# Altium schematic symbol library Quatro_SchLib.SchLib: 43 symbols
Pins are listed as number, name and electrical type; pins without a type are passive.

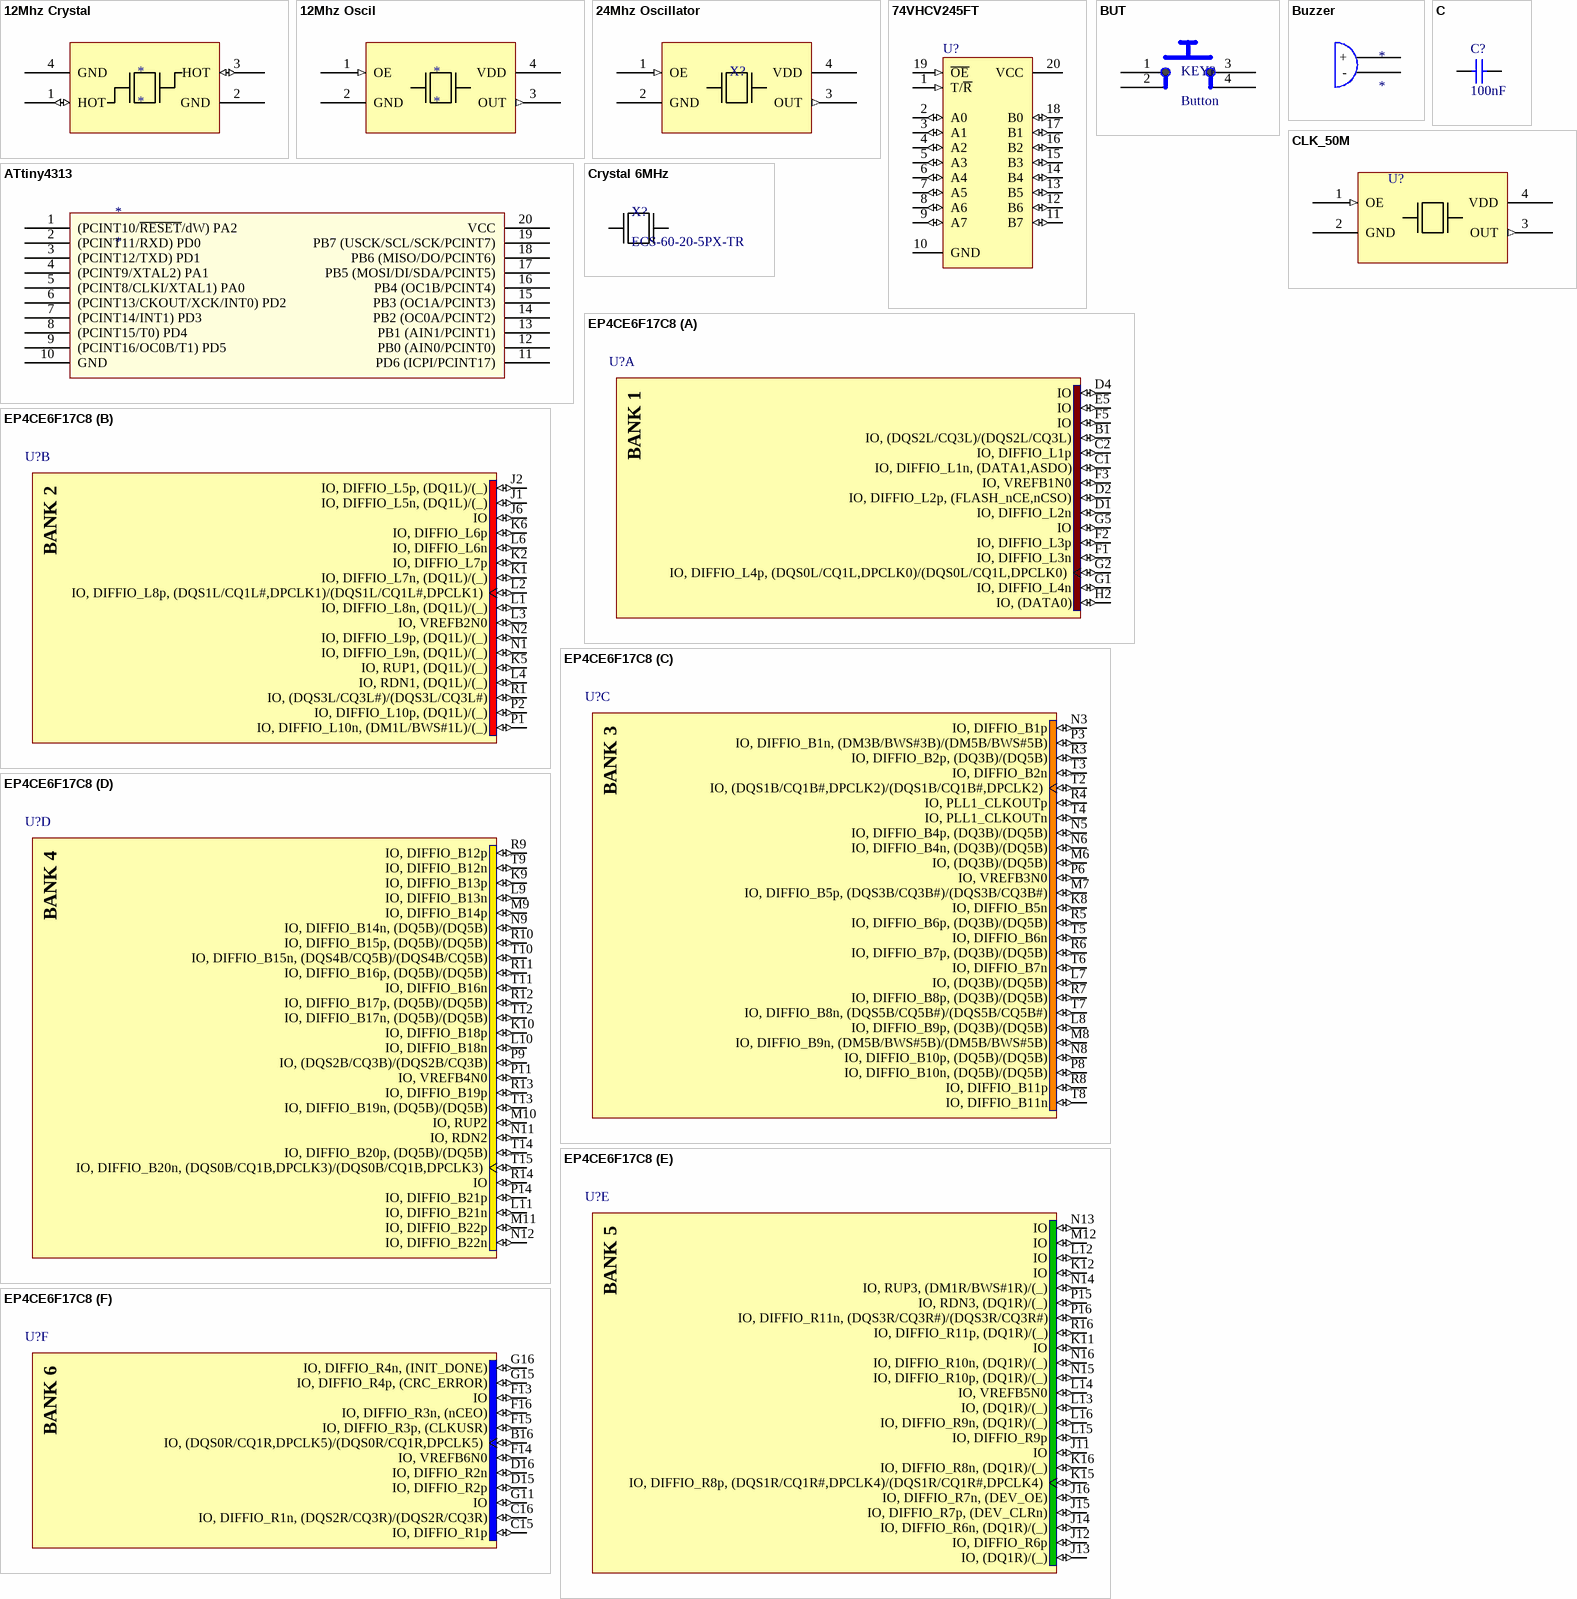
[diagram p0: symbols 12Mhz Crystal to EP4CE6F17C8]

## 12Mhz Crystal
designator *
Published: 12-Mar-2018; Publisher: MUEEC; Supplier 1: Digi-Key
footprint CX32225SB (KYCERA 12MhZ Crystal CX32225SB)
pins: 1 HOT (io), 2 GND (power), 3 HOT (io), 4 GND (power)

## 12Mhz Oscil
designator *
Published: 12-Mar-2018; Publisher: MUEEC; Supplier 1: Digi-Key; Supplier Part Number 1: 1253-1696-1-ND
footprint LGA4C100P2X2_120X160X89 (LGA, 4-Leads, Body 1.20x1.60mmx0.89mm, Pitch 1.00mm)
pins: 1 OE (in), 2 GND (power), 3 OUT (out), 4 VDD (power)

## 24Mhz Oscillator
designator X?
01 Created By: Rodrigo Maureira; Published: 18-Jun-2018; Publisher: MUEEC; Supplier 1: Digi-Key; Supplier Part Number 1: DSC6101CI1A-024.0000-ND
footprint CX32225SB (KYCERA 12MhZ Crystal CX32225SB)
pins: 1 OE (in), 2 GND (power), 3 OUT (out), 4 VDD (power)

## 74VHCV245FT
designator U?
Octal Schmitt Bus Transceiver with 3-State Outputs; 01 Created By: Rodrigo Maureira @ 2018-04-05; ComponentLink1Description: Manufacturer Link; ComponentLink1URL: http://www.ti.com/; ComponentLink2Description: Datasheet; ComponentLink2URL: http://www-s.ti.com/sc/ds/sn54ahc245.pdf; 02 Reviewed By: *; Supplier 1: Digi-Key; Supplier Part Number 1: 74VHCV245FTCT-ND
footprint TSSOP20B (TSOP, 20-Leads, Body 6,50x4,40mm, Pitch 0,65mm, IPC Low Density)
pins: 1 T/~{R} (in), 2 A0 (io), 3 A1 (io), 4 A2 (io), 5 A3 (io), 6 A4 (io), 7 A5 (io), 8 A6 (io), 9 A7 (io), 10 GND (power), 11 B7 (io), 12 B6 (io), 13 B5 (io), 14 B4 (io), 15 B3 (io), 16 B2 (io), 17 B1 (io), 18 B0 (io), 19 ~{OE} (in), 20 VCC (power)

## ATtiny4313
designator *
Published: 12-Mar-2018; Publisher: MUEEC; Supplier 1: Digi-Key; Supplier Part Number 1: ATTINY4313-SU-ND
footprint 20S2 (ATTINY 2313)
pins: 1 (PCINT10/~{RESET}/dW) PA2, 2 (PCINT11/RXD) PD0, 3 (PCINT12/TXD) PD1, 4 (PCINT9/XTAL2) PA1, 5 (PCINT8/CLKI/XTAL1) PA0, 6 (PCINT13/CKOUT/XCK/INT0) PD2, 7 (PCINT14/INT1) PD3, 8 (PCINT15/T0) PD4, 9 (PCINT16/OC0B/T1) PD5, 10 GND, 11 PD6 (ICPI/PCINT17), 12 PB0 (AIN0/PCINT0), 13 PB1 (AIN1/PCINT1), 14 PB2 (OC0A/PCINT2), 15 PB3 (OC1A/PCINT3), 16 PB4 (OC1B/PCINT4), 17 PB5 (MOSI/DI/SDA/PCINT5), 18 PB6 (MISO/DO/PCINT6), 19 PB7 (USCK/SCL/SCK/PCINT7), 20 VCC

## BUT
designator KEY?, comment Button
01 Created By: Thomas Harper (12/03/2017); Published: 12-Mar-2018; Publisher: MUEEC; Supplier 1: Digi-Key; Supplier Part Number 1: CKN9112TR-ND; Type: off-mom
footprint But_PTS645SMT
pins: 1 29, 2, 3 29, 4 1

## Buzzer
designator *
01 Created By: Thomas Harper (12/03/2017); Published: 12-Mar-2018; Publisher: MUEEC; Supplier 1: Digi-Key; Supplier Part Number 1: WT-1205
footprint WT-1205 (WT-1205 Buzzer)
pins: +, -

## C
designator C?, comment 100nF
Capacitor; Class I: Passive; Revision: July-2002: Re-released for DXP Platform.; Supplier 1: Digi-Key; Supplier Part Number 1: *; Value: 100nF; Published: 12-Mar-2018; Publisher: MUEEC
footprint CAP0402R (Capacitor 0402 reflow soldering)
footprint CAP0603R (capacitor 0603 reflow soldering)
footprint CAP0805R (capacitor 0805 reflow soldering)
pins: 1, 2

## CLK_50M
designator U?, comment Oscillator  (value not drawn)
OSC 50MHZ 3.3V SMD; Supplier 1: Digi-Key; Supplier Part Number 1: 535-9330-2-ND; Published: 12-Mar-2018; Publisher: MUEEC
footprint CRYSTAL_7x5
pins: 1 OE (in), 2 GND (power), 3 OUT (out), 4 VDD (power)

## Crystal 6MHz
designator X?, comment ECS-60-20-5PX-TR
Supplier Part Number 1: XC1000DKR-ND; Supplier 1: Digi-Key
footprint HC-49/US (Crystal)
pins: 1, 2

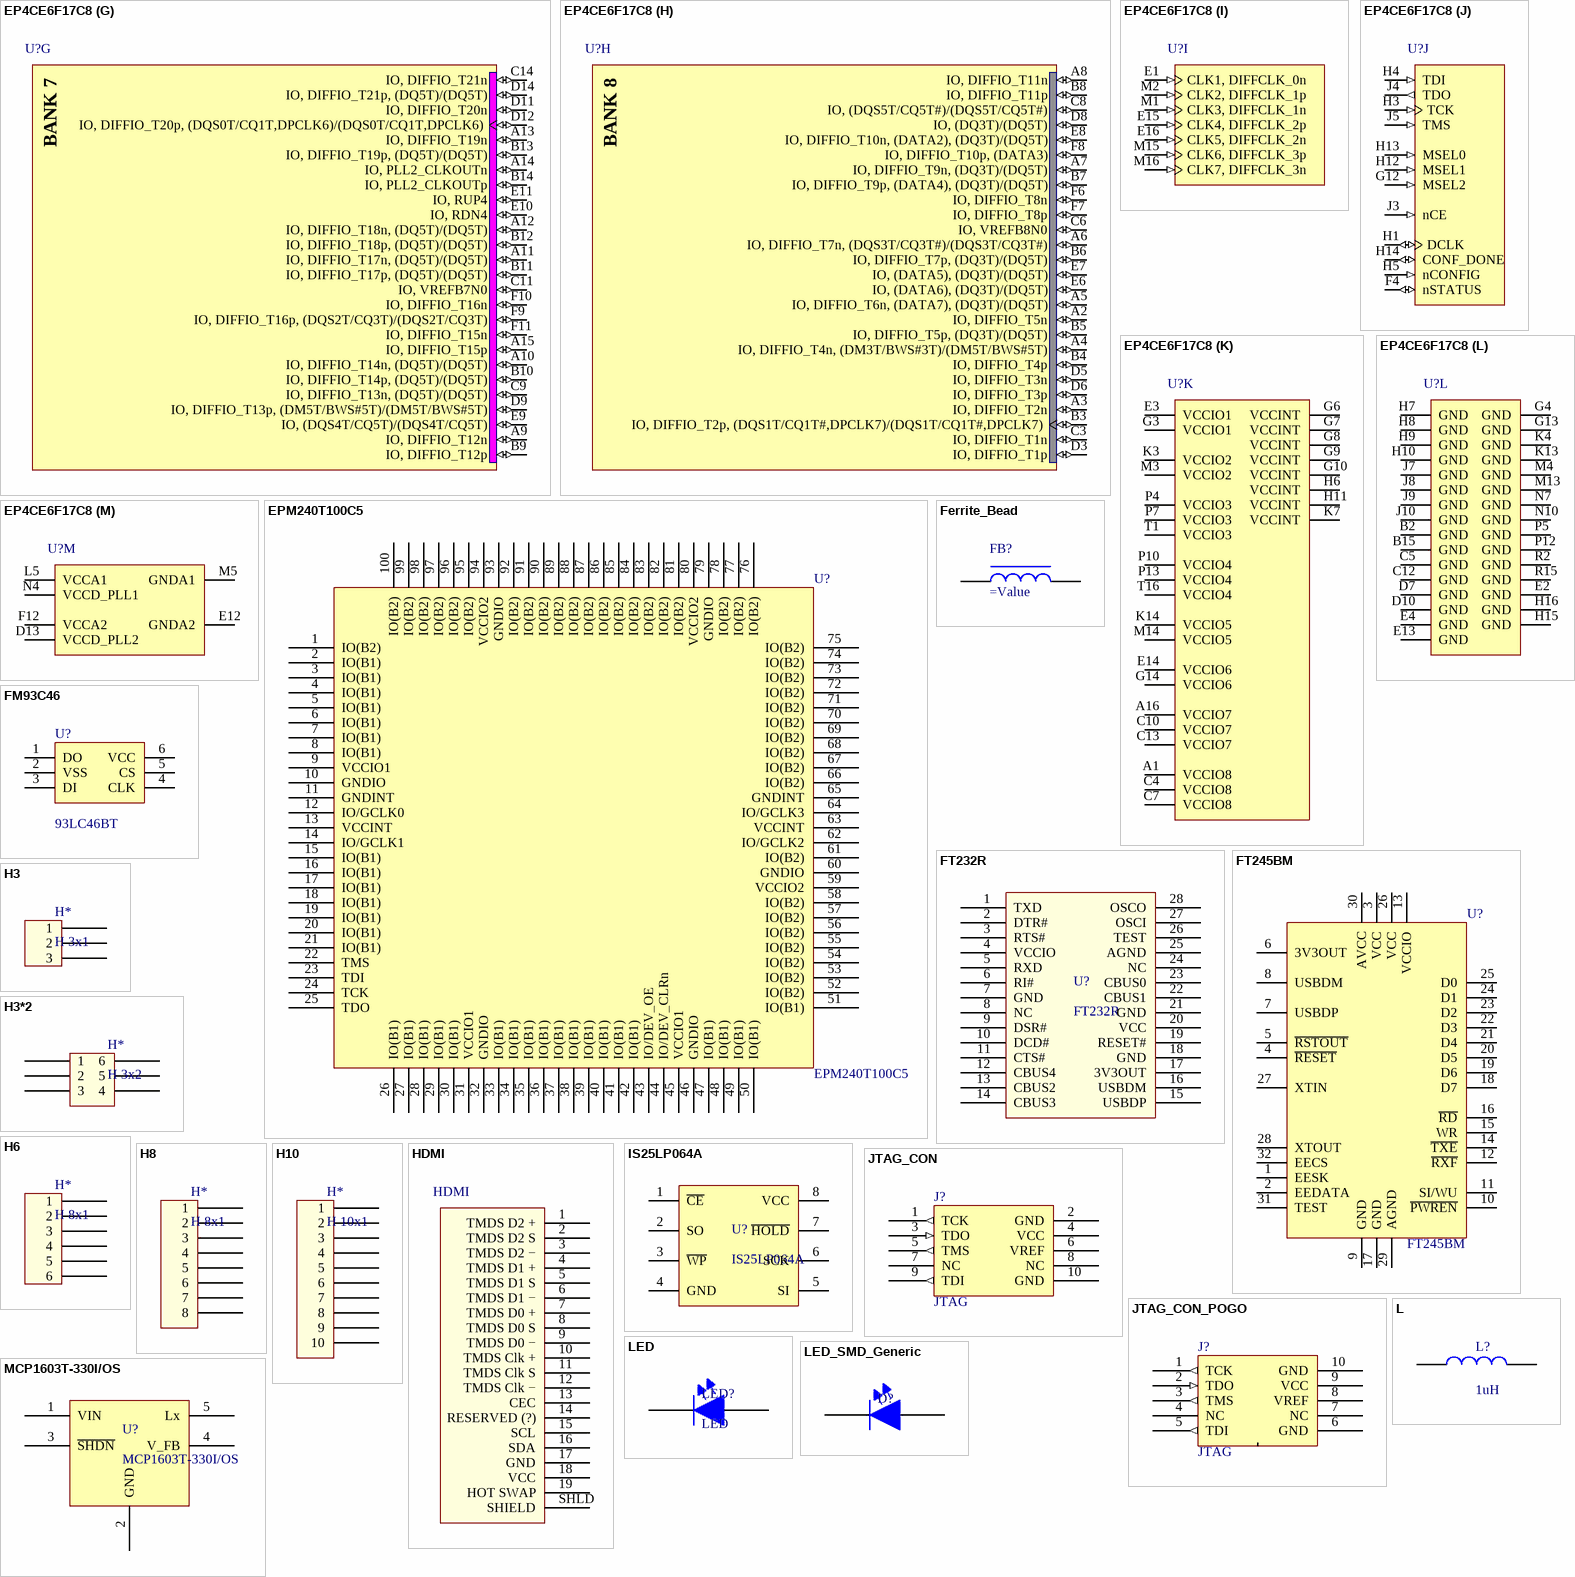
[diagram p1: symbols EP4CE6F17C8 to MCP1603T-330I/OS]

## EP4CE6F17C8
designator U?
Cyclone IV Family FPGA, 2V Core, 179 I/O Pins, 2 PLLs, 256-Pin FBGA, Speed Grade 8, Commercial Grade; Published: 3-May-2010; DatasheetVersion: ver1.2, Mar-2010; PackageVersion: ver16.0, Dec-2009; PackageReference: FBGA256; Publisher: Altium Limited; PackageDescription: 256-Ball FineLine Ball Grid Array (FBGA256) - Option 1 - Wire Bond; Supplier 1: Digi-Key; Supplier Part Number 1: EP4CE6F17C8-ND; Code_JEDEC: MS-034-AAF-1; Code_IPC: BGA100P16X16-256; ComponentLink1Description: Manufacturer Link; ComponentLink1URL: http://www.altera.com/; ComponentLink2Description: Handbook; ComponentLink2URL: http://www.altera.com/literature/hb/cyclone-iv/cyclone4-handbook.pdf; ComponentLink3Description: Pinout Specification; ComponentLink3URL: http://www.altera.com/literature/lit-dp.jsp?category=cyc%204&showspreadsheet=y; ComponentLink4Description: Packaging Specification; ComponentLink4URL: http://www.altera.com/literature/ds/dspkg.pdf
footprint FBGA256 (BGA, 256-Leads, Body 17x17mm, Pitch 1mm)
signal-integrity model EP4CE_F256 (Cyclone IV)
footprint FBGA256 (BGA, 256-Leads, Body 17x17mm, Pitch 1mm)
part A pins: B1 IO, (DQS2L/CQ3L)/(DQS2L/CQ3L) (io), C1 IO, DIFFIO_L1n, (DATA1,ASDO) (io), C2 IO, DIFFIO_L1p (io), D1 IO, DIFFIO_L2n (io), D2 IO, DIFFIO_L2p, (FLASH_nCE,nCSO) (io), D4 IO (io), E5 IO (io), F1 IO, DIFFIO_L3n (io), F2 IO, DIFFIO_L3p (io), F3 IO, VREFB1N0 (io), F5 IO (io), G1 IO, DIFFIO_L4n (io), G2 IO, DIFFIO_L4p, (DQS0L/CQ1L,DPCLK0)/(DQS0L/CQ1L,DPCLK0) (io), G5 IO (io), H2 IO, (DATA0) (io)
part B pins: J1 IO, DIFFIO_L5n, (DQ1L)/(_) (io), J2 IO, DIFFIO_L5p, (DQ1L)/(_) (io), J6 IO (io), K1 IO, DIFFIO_L7n, (DQ1L)/(_) (io), K2 IO, DIFFIO_L7p (io), K5 IO, RUP1, (DQ1L)/(_) (io), K6 IO, DIFFIO_L6p (io), L1 IO, DIFFIO_L8n, (DQ1L)/(_) (io), L2 IO, DIFFIO_L8p, (DQS1L/CQ1L#,DPCLK1)/(DQS1L/CQ1L#,DPCLK1) (io), L3 IO, VREFB2N0 (io), L4 IO, RDN1, (DQ1L)/(_) (io), L6 IO, DIFFIO_L6n (io), N1 IO, DIFFIO_L9n, (DQ1L)/(_) (io), N2 IO, DIFFIO_L9p, (DQ1L)/(_) (io), P1 IO, DIFFIO_L10n, (DM1L/BWS#1L)/(_) (io), P2 IO, DIFFIO_L10p, (DQ1L)/(_) (io), R1 IO, (DQS3L/CQ3L#)/(DQS3L/CQ3L#) (io)
part C pins: K8 IO, DIFFIO_B5n (io), L7 IO, (DQ3B)/(DQ5B) (io), L8 IO, DIFFIO_B9p, (DQ3B)/(DQ5B) (io), M6 IO, (DQ3B)/(DQ5B) (io), M7 IO, DIFFIO_B5p, (DQS3B/CQ3B#)/(DQS3B/CQ3B#) (io), M8 IO, DIFFIO_B9n, (DM5B/BWS#5B)/(DM5B/BWS#5B) (io), N3 IO, DIFFIO_B1p (io), N5 IO, DIFFIO_B4p, (DQ3B)/(DQ5B) (io), N6 IO, DIFFIO_B4n, (DQ3B)/(DQ5B) (io), N8 IO, DIFFIO_B10p, (DQ5B)/(DQ5B) (io), P3 IO, DIFFIO_B1n, (DM3B/BWS#3B)/(DM5B/BWS#5B) (io), P6 IO, VREFB3N0 (io), P8 IO, DIFFIO_B10n, (DQ5B)/(DQ5B) (io), R3 IO, DIFFIO_B2p, (DQ3B)/(DQ5B) (io), R4 IO, PLL1_CLKOUTp (io), R5 IO, DIFFIO_B6p, (DQ3B)/(DQ5B) (io), R6 IO, DIFFIO_B7p, (DQ3B)/(DQ5B) (io), R7 IO, DIFFIO_B8p, (DQ3B)/(DQ5B) (io), R8 IO, DIFFIO_B11p (io), T2 IO, (DQS1B/CQ1B#,DPCLK2)/(DQS1B/CQ1B#,DPCLK2) (io), T3 IO, DIFFIO_B2n (io), T4 IO, PLL1_CLKOUTn (io), T5 IO, DIFFIO_B6n (io), T6 IO, DIFFIO_B7n (io), T7 IO, DIFFIO_B8n, (DQS5B/CQ5B#)/(DQS5B/CQ5B#) (io), T8 IO, DIFFIO_B11n (io)
part D pins: K9 IO, DIFFIO_B13p (io), K10 IO, DIFFIO_B18p (io), L9 IO, DIFFIO_B13n (io), L10 IO, DIFFIO_B18n (io), L11 IO, DIFFIO_B21n (io), M9 IO, DIFFIO_B14p (io), M10 IO, RUP2 (io), M11 IO, DIFFIO_B22p (io), N9 IO, DIFFIO_B14n, (DQ5B)/(DQ5B) (io), N11 IO, RDN2 (io), N12 IO, DIFFIO_B22n (io), P9 IO, (DQS2B/CQ3B)/(DQS2B/CQ3B) (io), P11 IO, VREFB4N0 (io), P14 IO, DIFFIO_B21p (io), R9 IO, DIFFIO_B12p (io), R10 IO, DIFFIO_B15p, (DQ5B)/(DQ5B) (io), R11 IO, DIFFIO_B16p, (DQ5B)/(DQ5B) (io), R12 IO, DIFFIO_B17p, (DQ5B)/(DQ5B) (io), R13 IO, DIFFIO_B19p (io), R14 IO (io), T9 IO, DIFFIO_B12n (io), T10 IO, DIFFIO_B15n, (DQS4B/CQ5B)/(DQS4B/CQ5B) (io), T11 IO, DIFFIO_B16n (io), T12 IO, DIFFIO_B17n, (DQ5B)/(DQ5B) (io), T13 IO, DIFFIO_B19n, (DQ5B)/(DQ5B) (io), T14 IO, DIFFIO_B20p, (DQ5B)/(DQ5B) (io), T15 IO, DIFFIO_B20n, (DQS0B/CQ1B,DPCLK3)/(DQS0B/CQ1B,DPCLK3) (io)
part E pins: J11 IO (io), J12 IO, DIFFIO_R6p (io), J13 IO, (DQ1R)/(_) (io), J14 IO, DIFFIO_R6n, (DQ1R)/(_) (io), J15 IO, DIFFIO_R7p, (DEV_CLRn) (io), J16 IO, DIFFIO_R7n, (DEV_OE) (io), K11 IO (io), K12 IO (io), K15 IO, DIFFIO_R8p, (DQS1R/CQ1R#,DPCLK4)/(DQS1R/CQ1R#,DPCLK4) (io), K16 IO, DIFFIO_R8n, (DQ1R)/(_) (io), L12 IO (io), L13 IO, (DQ1R)/(_) (io), L14 IO, VREFB5N0 (io), L15 IO, DIFFIO_R9p (io), L16 IO, DIFFIO_R9n, (DQ1R)/(_) (io), M12 IO (io), N13 IO (io), N14 IO, RUP3, (DM1R/BWS#1R)/(_) (io), N15 IO, DIFFIO_R10p, (DQ1R)/(_) (io), N16 IO, DIFFIO_R10n, (DQ1R)/(_) (io), P15 IO, RDN3, (DQ1R)/(_) (io), P16 IO, DIFFIO_R11n, (DQS3R/CQ3R#)/(DQS3R/CQ3R#) (io), R16 IO, DIFFIO_R11p, (DQ1R)/(_) (io)
part F pins: B16 IO, (DQS0R/CQ1R,DPCLK5)/(DQS0R/CQ1R,DPCLK5) (io), C15 IO, DIFFIO_R1p (io), C16 IO, DIFFIO_R1n, (DQS2R/CQ3R)/(DQS2R/CQ3R) (io), D15 IO, DIFFIO_R2p (io), D16 IO, DIFFIO_R2n (io), F13 IO (io), F14 IO, VREFB6N0 (io), F15 IO, DIFFIO_R3p, (CLKUSR) (io), F16 IO, DIFFIO_R3n, (nCEO) (io), G11 IO (io), G15 IO, DIFFIO_R4p, (CRC_ERROR) (io), G16 IO, DIFFIO_R4n, (INIT_DONE) (io)
part G pins: A9 IO, DIFFIO_T12n (io), A10 IO, DIFFIO_T14n, (DQ5T)/(DQ5T) (io), A11 IO, DIFFIO_T17n, (DQ5T)/(DQ5T) (io), A12 IO, DIFFIO_T18n, (DQ5T)/(DQ5T) (io), A13 IO, DIFFIO_T19n (io), A14 IO, PLL2_CLKOUTn (io), A15 IO, DIFFIO_T15p (io), B9 IO, DIFFIO_T12p (io), B10 IO, DIFFIO_T14p, (DQ5T)/(DQ5T) (io), B11 IO, DIFFIO_T17p, (DQ5T)/(DQ5T) (io), B12 IO, DIFFIO_T18p, (DQ5T)/(DQ5T) (io), B13 IO, DIFFIO_T19p, (DQ5T)/(DQ5T) (io), B14 IO, PLL2_CLKOUTp (io), C9 IO, DIFFIO_T13n, (DQ5T)/(DQ5T) (io), C11 IO, VREFB7N0 (io), C14 IO, DIFFIO_T21n (io), D9 IO, DIFFIO_T13p, (DM5T/BWS#5T)/(DM5T/BWS#5T) (io), D11 IO, DIFFIO_T20n (io), D12 IO, DIFFIO_T20p, (DQS0T/CQ1T,DPCLK6)/(DQS0T/CQ1T,DPCLK6) (io), D14 IO, DIFFIO_T21p, (DQ5T)/(DQ5T) (io), E9 IO, (DQS4T/CQ5T)/(DQS4T/CQ5T) (io), E10 IO, RDN4 (io), E11 IO, RUP4 (io), F9 IO, DIFFIO_T16p, (DQS2T/CQ3T)/(DQS2T/CQ3T) (io), F10 IO, DIFFIO_T16n (io), F11 IO, DIFFIO_T15n (io)
part H pins: A2 IO, DIFFIO_T5n (io), A3 IO, DIFFIO_T2n (io), A4 IO, DIFFIO_T4n, (DM3T/BWS#3T)/(DM5T/BWS#5T) (io), A5 IO, DIFFIO_T6n, (DATA7), (DQ3T)/(DQ5T) (io), A6 IO, DIFFIO_T7n, (DQS3T/CQ3T#)/(DQS3T/CQ3T#) (io), A7 IO, DIFFIO_T9n, (DQ3T)/(DQ5T) (io), A8 IO, DIFFIO_T11n (io), B3 IO, DIFFIO_T2p, (DQS1T/CQ1T#,DPCLK7)/(DQS1T/CQ1T#,DPCLK7) (io), B4 IO, DIFFIO_T4p (io), B5 IO, DIFFIO_T5p, (DQ3T)/(DQ5T) (io), B6 IO, DIFFIO_T7p, (DQ3T)/(DQ5T) (io), B7 IO, DIFFIO_T9p, (DATA4), (DQ3T)/(DQ5T) (io), B8 IO, DIFFIO_T11p (io), C3 IO, DIFFIO_T1n (io), C6 IO, VREFB8N0 (io), C8 IO, (DQS5T/CQ5T#)/(DQS5T/CQ5T#) (io), D3 IO, DIFFIO_T1p (io), D5 IO, DIFFIO_T3n (io), D6 IO, DIFFIO_T3p (io), D8 IO, (DQ3T)/(DQ5T) (io), E6 IO, (DATA6), (DQ3T)/(DQ5T) (io), E7 IO, (DATA5), (DQ3T)/(DQ5T) (io), E8 IO, DIFFIO_T10n, (DATA2), (DQ3T)/(DQ5T) (io), F6 IO, DIFFIO_T8n (io), F7 IO, DIFFIO_T8p (io), F8 IO, DIFFIO_T10p, (DATA3) (io)
part I pins: E1 CLK1, DIFFCLK_0n (in), E15 CLK4, DIFFCLK_2p (in), E16 CLK5, DIFFCLK_2n (in), M1 CLK3, DIFFCLK_1n (in), M2 CLK2, DIFFCLK_1p (in), M15 CLK6, DIFFCLK_3p (in), M16 CLK7, DIFFCLK_3n (in)
part J pins: F4 nSTATUS (io), G12 MSEL2 (in), H1 DCLK (io), H3 TCK (in), H4 TDI (in), H5 nCONFIG (in), H12 MSEL1 (in), H13 MSEL0 (in), H14 CONF_DONE (io), J3 nCE (in), J4 TDO (out), J5 TMS (in)
part K pins: A1 VCCIO8 (power), A16 VCCIO7 (power), C4 VCCIO8 (power), C7 VCCIO8 (power), C10 VCCIO7 (power), C13 VCCIO7 (power), E3 VCCIO1 (power), E14 VCCIO6 (power), G3 VCCIO1 (power), G6 VCCINT (power), G7 VCCINT (power), G8 VCCINT (power), G9 VCCINT (power), G10 VCCINT (power), G14 VCCIO6 (power), H6 VCCINT (power), H11 VCCINT (power), K3 VCCIO2 (power), K7 VCCINT (power), K14 VCCIO5 (power), M3 VCCIO2 (power), M14 VCCIO5 (power), P4 VCCIO3 (power), P7 VCCIO3 (power), P10 VCCIO4 (power), P13 VCCIO4 (power), T1 VCCIO3 (power), T16 VCCIO4 (power)
part L pins: B2 GND (power), B15 GND (power), C5 GND (power), C12 GND (power), D7 GND (power), D10 GND (power), E2 GND (power), E4 GND (power), E13 GND (power), G4 GND (power), G13 GND (power), H7 GND (power), H8 GND (power), H9 GND (power), H10 GND (power), H15 GND (power), H16 GND (power), J7 GND (power), J8 GND (power), J9 GND (power), J10 GND (power), K4 GND (power), K13 GND (power), M4 GND (power), M13 GND (power), N7 GND (power), N10 GND (power), P5 GND (power), P12 GND (power), R2 GND (power), R15 GND (power)
part M pins: D13 VCCD_PLL2 (power), E12 GNDA2 (power), F12 VCCA2 (power), L5 VCCA1 (power), M5 GNDA1 (power), N4 VCCD_PLL1 (power)
part A text: BANK 1
part B text: BANK 2
part C text: BANK 3
part D text: BANK 4
part E text: BANK 5
part F text: BANK 6
part G text: BANK 7
part H text: BANK 8

## EPM240T100C5
designator U?
Supplier 1: Digi-Key; Supplier Part Number 1: 544-1964-ND
footprint TQFP100-14mm (TSQFP, 100-Leads, Body 14,00x14,00mm, Pitch 0,50mm, IPC Medium Density)
pins: 1 IO(B2), 2 IO(B1), 3 IO(B1), 4 IO(B1), 5 IO(B1), 6 IO(B1), 7 IO(B1), 8 IO(B1), 9 VCCIO1, 10 GNDIO, 11 GNDINT, 12 IO/GCLK0, 13 VCCINT, 14 IO/GCLK1, 15 IO(B1), 16 IO(B1), 17 IO(B1), 18 IO(B1), 19 IO(B1), 20 IO(B1), 21 IO(B1), 22 TMS, 23 TDI, 24 TCK, 25 TDO, 26 IO(B1), 27 IO(B1), 28 IO(B1), 29 IO(B1), 30 IO(B1), 31 VCCIO1, 32 GNDIO, 33 IO(B1), 34 IO(B1), 35 IO(B1), 36 IO(B1), 37 IO(B1), 38 IO(B1), 39 IO(B1), 40 IO(B1), 41 IO(B1), 42 IO(B1), 43 IO/DEV_OE, 44 IO/DEV_CLRn, 45 VCCIO1, 46 GNDIO, 47 IO(B1), 48 IO(B1), 49 IO(B1), 50 IO(B1), 51 IO(B1), 52 IO(B2), 53 IO(B2), 54 IO(B2), 55 IO(B2), 56 IO(B2), 57 IO(B2), 58 IO(B2), 59 VCCIO2, 60 GNDIO, 61 IO(B2), 62 IO/GCLK2, 63 VCCINT, 64 IO/GCLK3, 65 GNDINT, 66 IO(B2), 67 IO(B2), 68 IO(B2), 69 IO(B2), 70 IO(B2), 71 IO(B2), 72 IO(B2), 73 IO(B2), 74 IO(B2), 75 IO(B2), 76 IO(B2), 77 IO(B2), 78 IO(B2), 79 GNDIO, 80 VCCIO2, 81 IO(B2), 82 IO(B2), 83 IO(B2), 84 IO(B2), 85 IO(B2), 86 IO(B2), 87 IO(B2), 88 IO(B2), 89 IO(B2), 90 IO(B2), 91 IO(B2), 92 IO(B2), 93 GNDIO, 94 VCCIO2, 95 IO(B2), 96 IO(B2), 97 IO(B2), 98 IO(B2), 99 IO(B2), 100 IO(B2)

## Ferrite_Bead
designator FB?
Ferrite Bead; Supplier 1: Digi-Key; Supplier Part Number 1: *; Published: 12-Mar-2018; Publisher: MUEEC
footprint RES0805R (resistor 0805 reflow soldering)
footprint RES0603R (resistor 0603 reflow soldering)
footprint RES0402R (resistor 0402 reflow soldering)
pins: 1, 2

## FM93C46
designator U?, comment 93LC46BT
1024-Bit Serial CMOS EEPROM; Supplier 1: Digi-Key; Supplier Part Number 1: 93LC46BT-I/OTCT-ND
footprint SOT23-6 (SOT23, 6-Leads, Body 2,90x2,45mm, Pitch 0,95mm, IPC Medium Density)
pins: 1 DO, 2 VSS, 3 DI, 4 CLK, 5 CS, 6 VCC

## FT232R
designator U?
768-1306-ND; 01 Created By: Thomas Harper (12/03/2017); Published: 12-Mar-2018; Publisher: MUEEC; Supplier 1: Digi-Key; Supplier Part Number 1: 768-1306-ND
pins: 1 TXD, 2 DTR#, 3 RTS#, 4 VCCIO, 5 RXD, 6 RI#, 7 GND, 8 NC, 9 DSR#, 10 DCD#, 11 CTS#, 12 CBUS4, 13 CBUS2, 14 CBUS3, 15 USBDP, 16 USBDM, 17 3V3OUT, 18 GND, 19 RESET#, 20 VCC, 21 GND, 22 CBUS1, 23 CBUS0, 24 NC, 25 AGND, 26 TEST, 27 OSCI, 28 OSCO

## FT245BM
designator U?
USB FIFO IC; Supplier 1: Digi-Key; Supplier Part Number 1: 768-1308-ND
footprint LQFP32 (TQFP, 32-Leads, Body 7,00x7,00mm, Pitch 0,80mm, IPC Medium Density)
pins: 1 EESK, 2 EEDATA, 3 VCC, 4 ~{RESET}, 5 ~{RSTOUT}, 6 3V3OUT, 7 USBDP, 8 USBDM, 9 GND, 10 ~{PWREN}, 11 SI/WU, 12 ~{RXF}, 13 VCCIO, 14 ~{TXE}, 15 WR, 16 ~{RD}, 17 GND, 18 D7, 19 D6, 20 D5, 21 D4, 22 D3, 23 D2, 24 D1, 25 D0, 26 VCC, 27 XTIN, 28 XTOUT, 29 AGND, 30 AVCC, 31 TEST, 32 EECS

## H3
designator H*, comment H 3x1
0.1mil pitch header; 01 Created By: Thomas Harper (12/03/2017); Class I: Connector; Published: 12-Mar-2018; Publisher: MUEEC; Supplier 1: Digi-Key
pins: 1, 2, 3

## H3*2
designator H*, comment H 3x2
0.1mil pitch header; 01 Created By: Thomas Harper (12/03/2017); Class I: Connector; Published: 12-Mar-2018; Publisher: MUEEC; Supplier 1: Digi-Key
footprint H3*2 (Headers 0.1mil pitch)
pins: 1, 2, 3, 4, 5, 6

## H6
designator H*, comment H 8x1
0.1mil pitch header; 01 Created By: Thomas Harper (12/03/2017); Class I: Connector; Published: 12-Mar-2018; Publisher: MUEEC; Supplier 1: Digi-Key
footprint H6 (Headers 0.1mil pitch)
pins: 1, 2, 3, 4, 5, 6

## H8
designator H*, comment H 8x1
0.1mil pitch header; 01 Created By: Thomas Harper (12/03/2017); Class I: Connector; Published: 12-Mar-2018; Publisher: MUEEC; Supplier 1: Digi-Key
pins: 1, 2, 3, 4, 5, 6, 7, 8

## H10
designator H*, comment H 10x1
0.1mil pitch header; 01 Created By: Thomas Harper (12/03/2017); Class I: Connector; Published: 12-Mar-2018; Publisher: MUEEC; Supplier 1: Digi-Key
footprint H10 (Headers 0.1mil pitch)
pins: 1, 2, 3, 4, 5, 6, 7, 8, 9, 10

## HDMI
designator HDMI
19 Pin HDMI; 01 Created By: Thomas Harper @ 2018-03-12; 02 Reviewed By: Rodrigo Maureira @ 2018-04-06; Class I: Connector; Published: 12-Mar-2018; Publisher: MUEEC; Supplier 1: Digi-Key; Supplier Part Number 1: 609-4614-1-ND
footprint HDMI (Amphenol HDMI HDMI™ 1.4 Receptacle Connector 19 Position Surface Mount, Right Angle; Through Hole)
pins: 1 TMDS D2 +, 2 TMDS D2 S, 3 TMDS D2 −, 4 TMDS D1 +, 5 TMDS D1 S, 6 TMDS D1 −, 7 TMDS D0 +, 8 TMDS D0 S, 9 TMDS D0 −, 10 TMDS Clk +, 11 TMDS Clk S, 12 TMDS Clk −, 13 CEC, 14 RESERVED (?), 15 SCL, 16 SDA, 17 GND, 18 VCC, 19 HOT SWAP, SHLD SHIELD

## IS25LP064A
designator U?
64Mb Serial Flash Memory; Supplier 1: Digi-Key; Supplier Part Number 1: 706-1440-5-ND; Published: 12-Mar-2018; Publisher: MUEEC
footprint SOIC-8 (SOIC, 8-Leads, Body 5,28x5,28mm, Pitch 1,27mm, IPC Medium Density)
pins: 1 ~{CE}, 2 SO, 3 ~{WP}, 4 GND, 5 SI, 6 SCK, 7 ~{HOLD}, 8 VCC

## JTAG_CON
designator J?, comment JTAG
JTAG connector; Published: 12-Mar-2018; Publisher: MUEEC; Supplier 1: Digi-Key; Supplier Part Number 1: ED1543-ND
footprint BOXEDVERT10 (IDC Header 2.54mm Boxed 10 pins)
pins: 1 TCK (out), 2 GND, 3 TDO (in), 4 VCC (power), 5 TMS (out), 6 VREF, 7 NC, 8 NC, 9 TDI (out), 10 GND

## JTAG_CON_POGO
designator J?, comment JTAG  (no BOM)
Contacts for TC2050-IDC-NL; 01 Created By: Rodrigo Maureira; Published: 18-Jun-2018; Publisher: MUEEC; Supplier 1: Digi-Key; Supplier Part Number 1: TC2050-IDC-NL-430-ND
footprint TC2050-IDC-NL
pins: 0, 1 TCK (out), 2 TDO (in), 3 TMS (out), 4 NC, 5 TDI (out), 6 GND, 7 NC, 8 VREF, 9 VCC (power), 10 GND

## L
designator L?, comment 1uH
Inductor; Supplier 1: Digi-Key; Supplier Part Number 1: *; Value: 1uH; Published: 12-Mar-2018; Publisher: MUEEC
footprint RES0805R (resistor 0805 reflow soldering)
footprint RES0603R (resistor 0603 reflow soldering)
footprint RES0402R (resistor 0402 reflow soldering)
footprint 744031004 (Wurth Inductor)
pins: 1, 2

## LED
designator LED?
LED Red; 01 Created By: Thomas Harper; 02 Reviewed By: Rodrigo Maureira @ 2018-04-05; Published: 12-Mar-2018; Publisher: MUEEC; Supplier 1: Digi-Key; Supplier Part Number 1: SML-D12U1WT86CT-ND
footprint LED0603 (ROHM LED 0603 SML-D12x1 Series)
pins: A ANODE, K CATHODE

## LED_SMD_Generic
designator D?, comment LED  (value not drawn)
Generic LED; 01 Created By: Thomas Harper; 02 Reviewed By: Rodrigo Maureira @ 2018-04-05; Published: 12-Mar-2018; Publisher: MUEEC; Supplier 1: *; Supplier Part Number 1: *
footprint LED0603 (ROHM LED 0603 SML-D12x1 Series)
footprint 0805D-GREEN (0805 Diode)
footprint 0805D-RED (0805 Diode RED)
pins: A ANODE, K CATHODE

## MCP1603T-330I/OS
designator U?
3.3V 500mA Buck Converter; 02 Reviewed By: Rodrigo Maureira @ 2018-10-04; Supplier 1: Digi-Key; Supplier Part Number 1: MCP1603T-330I/OSCT-ND; Published: 12-Mar-2018; Publisher: MUEEC
footprint SOT23-5 (SOT23, 5-Leads, Body 2,90x2,80mm, Pitch 0,95mm, IPC Medium Density)
pins: 1 VIN, 2 GND, 3 ~{SHDN}, 4 V_FB, 5 Lx

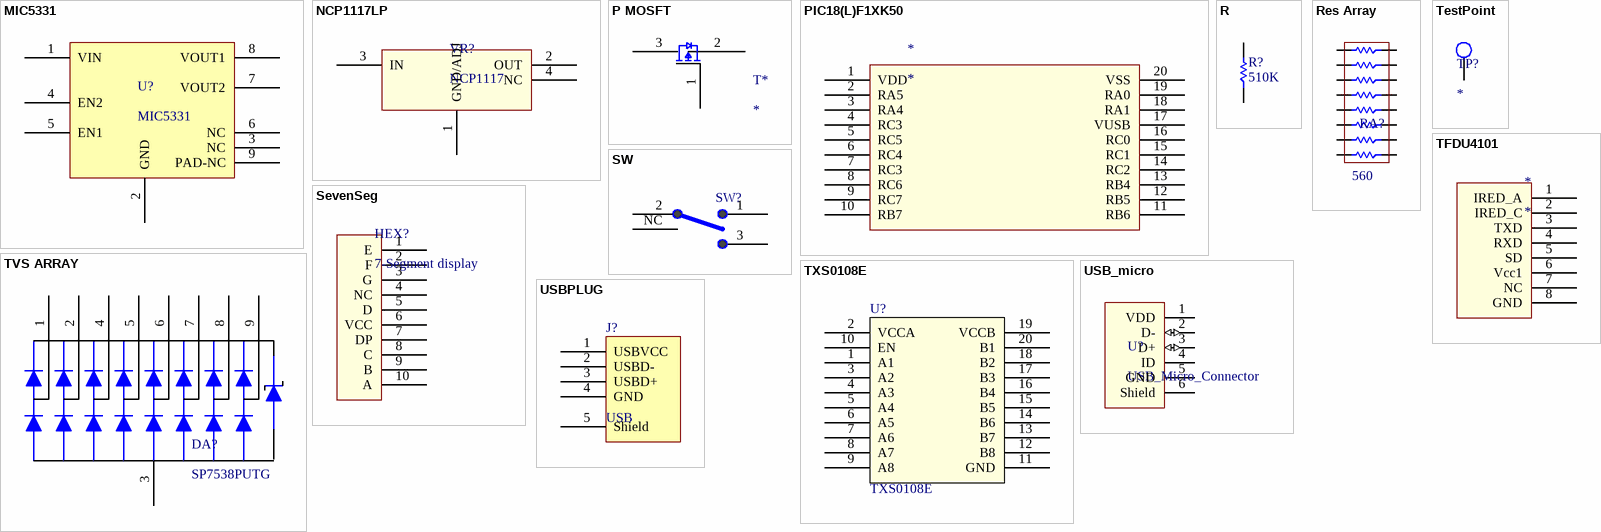
[diagram p2: symbols MIC5331 to USBPLUG]

## MIC5331
designator U?
1.2V, 2.5V 300mA LDO; Supplier 1: Digi-Key; Supplier Part Number 1: 576-3150-1-ND; Published: 12-Mar-2018; Publisher: MUEEC
footprint TDFN22 (2mm x 2mm TDFN)
pins: 1 VIN, 2 GND, 3 NC, 4 EN2, 5 EN1, 6 NC, 7 VOUT2, 8 VOUT1, 9 PAD-NC

## NCP1117LP
designator VR?, comment NCP1117
inear Voltage Regulator IC Positive Fixed 1 Output 5V 1A SOT-223; 01 Created By: Thomas Harper (12/03/2017); Published: 12-Mar-2018; Publisher: MUEEC; Supplier 1: Digi-Key; Supplier Part Number 1: NCP1117LPST50T3GOSCT-ND
footprint SOT223_NCP1117LP (SOT223, 4-Leads, Body 6.50x7.00mm (avg), Pitch 2.30mm, IPC Low Density,NCP1117LP)
pins: 1 GND/ADJ, 2 OUT, 3 IN, 4 NC

## P MOSFT
designator T*
PMV48XP | FDN340P; Published: 12-Mar-2018; Publisher: MUEEC; Supplier 1: Digi-Key
footprint SOT23_PMV48XP (SOT23, 3-Leads, Body 2.90x2.30mm, Pitch 0.95mm, IPC Medium Density, PMV48XP)
pins: 1 G, 2 S, 3 D

## PIC18(L)F1XK50
designator *
01 Created By: Thomas Harper (12/03/2017); Published: 12-Mar-2018; Publisher: MUEEC; Supplier 1: Digi-Key; Supplier Part Number 1: PIC18F14K50-I/SS-ND
footprint SOP20 PIC (SOP, 20-Leads, Body 7.20x5.30mm, Pitch 0.65mm, IPC Medium Density)
pins: 1 VDD, 2 RA5, 3 RA4, 4 RC3, 5 RC5, 6 RC4, 7 RC3, 8 RC6, 9 RC7, 10 RB7, 11 RB6, 12 RB5, 13 RB4, 14 RC2, 15 RC1, 16 RC0, 17 VUSB, 18 RA1, 19 RA0, 20 VSS

## R
designator R?, comment 510K
Resistor; 01 Created By: Thomas Harper (12/03/2017); Supplier 1: Digi-Key; Supplier Part Number 1: *; Published: 12-Mar-2018; Publisher: MUEEC; Value: 510K
footprint RES0402R (resistor 0402 reflow soldering)
footprint RES0603R (resistor 0603 reflow soldering)
footprint RES0805R (resistor 0805 reflow soldering)
pins: 1, 2

## Res Array
designator RA?, comment value 560  (hidden comment: Resistor Array)
Resistor Array with 8 Isolated Resistors; Num of Resistors: 8; 01 Created By: Thomas Harper (12/03/2017); 02 Reviewed By: Rodrigo Maureira (27/03/2018); Type: Isolated; Published: 12-Mar-2018; Publisher: MUEEC; Supplier 1: Digi-Key; Supplier Part Number 1: Y1561CT-ND
footprint EXB-2HV (Panasonic 8 Res Convex SMD 1506)
pins: 1, 2, 3, 4, 5, 6, 7, 8, 9, 10, 11, 12, 13, 14, 15, 16

## SevenSeg
designator HEX?, comment 7-Segment display
01 Created By: Thomas Harper (12/03/2017); 02 Reviewed By: Rodrigo Maureira (27/03/2018); Color: Red; Published: 12-Mar-2018; Publisher: MUEEC; Supplier 1: Digi-Key; Supplier Part Number 1: 1830-1152-ND; Type: Common Anode
footprint Seven_Seg_INND-TS40
pins: 1 E, 2 F, 3 G, 4 NC, 5 D, 6 VCC, 7 DP, 8 C, 9 B, 10 A

## SW
designator SW?
OS102011MS2QN OS Series / Miniature Slide Switches / 1-2 , 2-3 (on,on); 01 Created By: Thomas Harper (12/03/2017); Published: 12-Mar-2018; Publisher: MUEEC; Supplier 1: Digi-Key; Supplier Part Number 1: CKN9565-ND
footprint SW_OS102011MS2Q
pins: 1, 2, 3 29, NC

## TestPoint
designator TP?  (no BOM)
Test Point; Published: 12-Mar-2018; Publisher: MUEEC
footprint TestPoint (Test Point)
pins: 0 TP

## TFDU4101
designator *
01 Created By: Thomas Harper (16/03/2017); Published: 17-Mar-2018; Publisher: MUEEC; Supplier 1: Digi-Key; Supplier Part Number 1: 751-1070-1-ND
footprint TFDU4101
pins: 1 IRED_A, 2 IRED_C, 3 TXD, 4 RXD, 5 SD, 6 Vcc1, 7 NC, 8 GND

## TVS ARRAY
designator DA?, comment SP7538PUTG
Littelfuse Inc. SP7538PUTG; 01 Created By: Thomas Harper (12/03/2017); 02 Reviewed By: Rodrigo Maureira @ 2018-04-06; Published: 12-Mar-2018; Publisher: MUEEC; Supplier 1: Digi-Key; Supplier Part Number 1: F7417CT-ND
footprint 9-UDFN (Chip Array, Flat, 9-Leads, Pitch 0.80mm,  Body 3.80x1.00mm,  IPC Medium Density)
pins: 1, 2, 3, 4, 5, 6, 7, 8, 9

## TXS0108E
designator U?
8-BIT BIDIRECTIONAL VOLTAGE-LEVEL TRANSLATOR  FOR OPEN-DRAIN AND PUSH-PULL APPLICATIONS; Supplier 1: Digi-Key; Supplier Part Number 1: 296-23011-1-ND
footprint TSSOP20-4.4mm (TSOP, 20-Leads, Body 6.50x4.40mm, Pitch 0.65mm, IPC Medium Density)
pins: 1 A1, 2 VCCA, 3 A2, 4 A3, 5 A4, 6 A5, 7 A6, 8 A7, 9 A8, 10 EN, 11 GND, 12 B8, 13 B7, 14 B6, 15 B5, 16 B4, 17 B3, 18 B2, 19 VCCB, 20 B1

## USB_micro
designator U?, comment USB_Micro_Connector
CONN USB MICRO B RECPT SMT R/A; Manufacturer Part Number: 10118194-0001LF; 01 Created By: David Lynch @ 30/11/2017; 02 Reviewed By: Rodrigo Maureira @ 14/01/2018; Supplier Part Number 1: 609-4618-1-ND; Digikey URL: https://www.digikey.com.au/product-detail/en/amphenol-fci/10118194-0001LF/609-4618-1-ND/2785382; Supplier 1: Digi-Key; Published: 12-Mar-2018; Publisher: MUEEC; Class I: Connector
footprint USB_micro_through
pins: 1 VDD (power), 2 D- (io), 3 D+ (io), 4 ID, 5 GND (power), 6 Shield

## USBPLUG
designator J?, comment USB
USB B Type Connector; Supplier 1: Digi-Key; Supplier Part Number 1: AE11183-ND
footprint USBPLUG
pins: 1 USBVCC, 2 USBD-, 3 USBD+, 4 GND, 5 Shield